# Altium schematic symbol library BTN8982TA.SchLib: 1 symbol
Pins are listed as number, name and electrical type; pins without a type are passive.

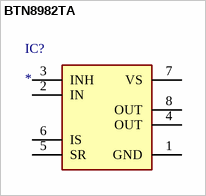
[diagram p0: symbol BTN8982TA]

## BTN8982TA
designator IC?
Integrated Circuit; Manufacturer_Name: Infineon; Manufacturer_Part_Number: BTN8982TA; Datasheet Link: http://docs-emea.rs-online.com/webdocs/1478/0900766b81478095.pdf; Height: 4.4mm; Mouser Part Number: 726-BTN8982TA; Mouser Price/Stock: https://www.mouser.co.uk/ProductDetail/Infineon-Technologies/BTN8982TA?qs=y2kkmE52mdPcPfXmFEmVng%3D%3D
footprint TO127P1500X440-8N
pins: 1 GND (power), 2 IN, 3 INH, 4 OUT, 5 SR, 6 IS, 7 VS, 8 OUT